# EAGLE library part LSM303D_POLOLU (library ME433)
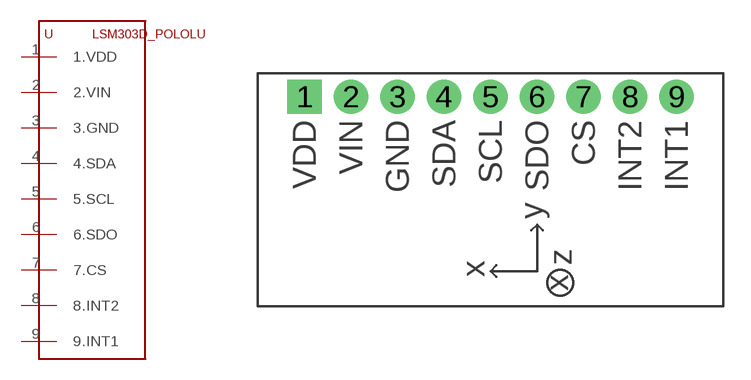
[diagram p0: symbol with the pads of LSM303D_POLOLU; footprint LSM303D_POLOLU]

Designator prefix -

## LSM303D_POLOLU  [LSM303D_POLOLU]
1  1.VDD
2  2.VIN
3  3.GND
4  4.SDA
5  5.SCL
6  6.SDO
7  7.CS
8  8.INT2
9  9.INT1

## Footprint LSM303D_POLOLU (pad centres in mm)
drill 1.016 pad 1.88 square: 1 0,0
drill 1.016 pad 1.88: 2 2.54,0; 3 5.08,0; 4 7.62,0; 5 10.16,0; 6 12.7,0; 7 15.24,0; 8 17.78,0; 9 20.32,0